# EAGLE library part PETC-02-40-02-01-X-VT(DTOB) (library CONN_Distribution-Bricks)
CONN HEADER VERT 44 POS
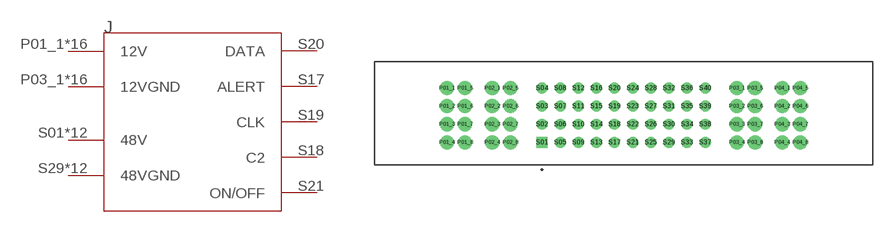
[diagram p0: symbol with the pads of SAMTEC_PETC-02-40-01-X-VT_DTOB; footprint SAMTEC_PETC-02-40-01-X-VT_DTOB]

Designator prefix J

## PETC-02-40-02-01-X-VT(DTOB) (MANUFACTURER: Samtec; MAXIMUM_PACKAGE_HEIGHT: 14.62 mm; PARTREV: D; STANDARD: Manufacturer Recommendations)  [SAMTEC_PETC-02-40-01-X-VT_DTOB]
P01_1  12V
P01_2  12V
P01_3  12V
P01_4  12V
P01_5  12V
P01_6  12V
P01_7  12V
P01_8  12V
P02_1  12V
P02_2  12V
P02_3  12V
P02_4  12V
P02_5  12V
P02_6  12V
P02_7  12V
P02_8  12V
P03_1  12VGND
P03_2  12VGND
P03_3  12VGND
P03_4  12VGND
P03_5  12VGND
P03_6  12VGND
P03_7  12VGND
P03_8  12VGND
P04_1  12VGND
P04_2  12VGND
P04_3  12VGND
P04_4  12VGND
P04_5  12VGND
P04_6  12VGND
P04_7  12VGND
P04_8  12VGND
S01  48V
S02  48V
S03  48V
S04  48V
S05  48V
S06  48V
S07  48V
S08  48V
S09  48V
S10  48V
S11  48V
S12  48V
S17  ALERT
S18  C2
S19  CLK
S20  DATA
S21  ON/OFF
S29  48VGND
S30  48VGND
S31  48VGND
S32  48VGND
S33  48VGND
S34  48VGND
S35  48VGND
S36  48VGND
S37  48VGND
S38  48VGND
S39  48VGND
S40  48VGND

## Footprint SAMTEC_PETC-02-40-01-X-VT_DTOB (pad centres in mm)
VERTICAL POWER SOCKET.
drill 1.32: P01_1 -24.765,5.08; P01_2 -24.765,2.54; P01_3 -24.765,0; P01_4 -24.765,-2.54; P01_5 -22.225,5.08; P01_6 -22.225,2.54; P01_7 -22.225,0; P01_8 -22.225,-2.54; P02_1 -18.415,5.08; P02_2 -18.415,2.54; P02_3 -18.415,0; P02_4 -18.415,-2.54; P02_5 -15.875,5.08; P02_6 -15.875,2.54; P02_7 -15.875,0; P02_8 -15.875,-2.54; P03_1 15.875,5.08; P03_2 15.875,2.54; P03_3 15.875,0; P03_4 15.875,-2.54; P03_5 18.415,5.08; P03_6 18.415,2.54; P03_7 18.415,0; P03_8 18.415,-2.54; P04_1 22.225,5.08; P04_2 22.225,2.54; P04_3 22.225,0; P04_4 22.225,-2.54; P04_5 24.765,5.08; P04_6 24.765,2.54; P04_7 24.765,0; P04_8 24.765,-2.54
drill 1.02 square: S01 -11.43,-2.54
drill 1.02: S02 -11.43,0; S03 -11.43,2.54; S04 -11.43,5.08; S05 -8.89,-2.54; S06 -8.89,0; S07 -8.89,2.54; S08 -8.89,5.08; S09 -6.35,-2.54; S10 -6.35,0; S11 -6.35,2.54; S12 -6.35,5.08; S13 -3.81,-2.54; S14 -3.81,0; S15 -3.81,2.54; S16 -3.81,5.08; S17 -1.27,-2.54; S18 -1.27,0; S19 -1.27,2.54; S20 -1.27,5.08; S21 1.27,-2.54; S22 1.27,0; S23 1.27,2.54; S24 1.27,5.08; S25 3.81,-2.54; S26 3.81,0; S27 3.81,2.54; S28 3.81,5.08; S29 6.35,-2.54; S30 6.35,0; S31 6.35,2.54; S32 6.35,5.08; S33 8.89,-2.54; S34 8.89,0; S35 8.89,2.54; S36 8.89,5.08; S37 11.43,-2.54; S38 11.43,0; S39 11.43,2.54; S40 11.43,5.08